# Altium integrated library CDE_Library.IntLib: 6171 symbols (part 10 of 25)
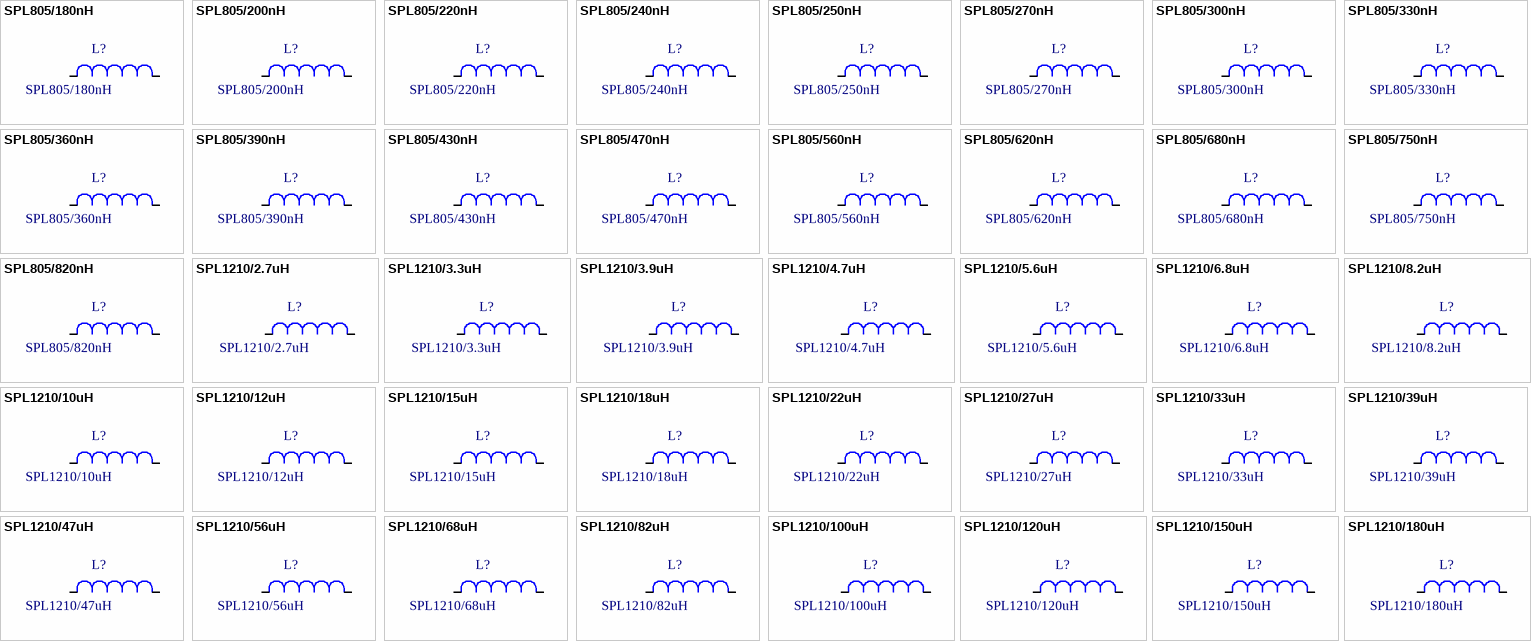
[diagram p266: symbols SPL805/180nH to SPL1210/180uH]

## SPL1210/39uH
designator L?
smd spoel, verpakking 1210, 39uH; Part Number: SPL1210/39uH; Component Kind: Standard; Component Type: Standard; Designator: SPL1210/39uH; Footprint: smd C1210; Library Reference: SPL1210/39uH; Pin Count: 2
footprint smd C1210
pins: 1, 2

## SPL1210/47uH
designator L?
smd spoel, verpakking 1210, 47uH; Part Number: SPL1210/47uH; Component Kind: Standard; Component Type: Standard; Designator: SPL1210/47uH; Footprint: smd C1210; Library Reference: SPL1210/47uH; Pin Count: 2
footprint smd C1210
pins: 1, 2

## SPL1210/56uH
designator L?
smd spoel, verpakking 1210, 56uH; Part Number: SPL1210/56uH; Component Kind: Standard; Component Type: Standard; Designator: SPL1210/56uH; Footprint: smd C1210; Library Reference: SPL1210/56uH; Pin Count: 2
footprint smd C1210
pins: 1, 2

## SPL1210/68uH
designator L?
smd spoel, verpakking 1210, 68uH; Part Number: SPL1210/68uH; Component Kind: Standard; Component Type: Standard; Designator: SPL1210/68uH; Footprint: smd C1210; Library Reference: SPL1210/68uH; Pin Count: 2
footprint smd C1210
pins: 1, 2

## SPL1210/82uH
designator L?
smd spoel, verpakking 1210, 82uH; Part Number: SPL1210/82uH; Component Kind: Standard; Component Type: Standard; Designator: SPL1210/82uH; Footprint: smd C1210; Library Reference: SPL1210/82uH; Pin Count: 2
footprint smd C1210
pins: 1, 2

## SPL1210/100uH
designator L?
smd spoel, verpakking 1210, 100uH; Part Number: SPL1210/100uH; Component Kind: Standard; Component Type: Standard; Designator: SPL1210/100uH; Footprint: smd C1210; Library Reference: SPL1210/100uH; Pin Count: 2
footprint smd C1210
pins: 1, 2

## SPL1210/120uH
designator L?
smd spoel, verpakking 1210, 120uH; Part Number: SPL1210/120uH; Component Kind: Standard; Component Type: Standard; Designator: SPL1210/120uH; Footprint: smd C1210; Library Reference: SPL1210/120uH; Pin Count: 2
footprint smd C1210
pins: 1, 2

## SPL1210/150uH
designator L?
smd spoel, verpakking 1210, 150uH; Part Number: SPL1210/150uH; Component Kind: Standard; Component Type: Standard; Designator: SPL1210/150uH; Footprint: smd C1210; Library Reference: SPL1210/150uH; Pin Count: 2
footprint smd C1210
pins: 1, 2

## SPL1210/180uH
designator L?
smd spoel, verpakking 1210, 180uH; Part Number: SPL1210/180uH; Component Kind: Standard; Component Type: Standard; Designator: SPL1210/180uH; Footprint: smd C1210; Library Reference: SPL1210/180uH; Pin Count: 2
footprint smd C1210
pins: 1, 2

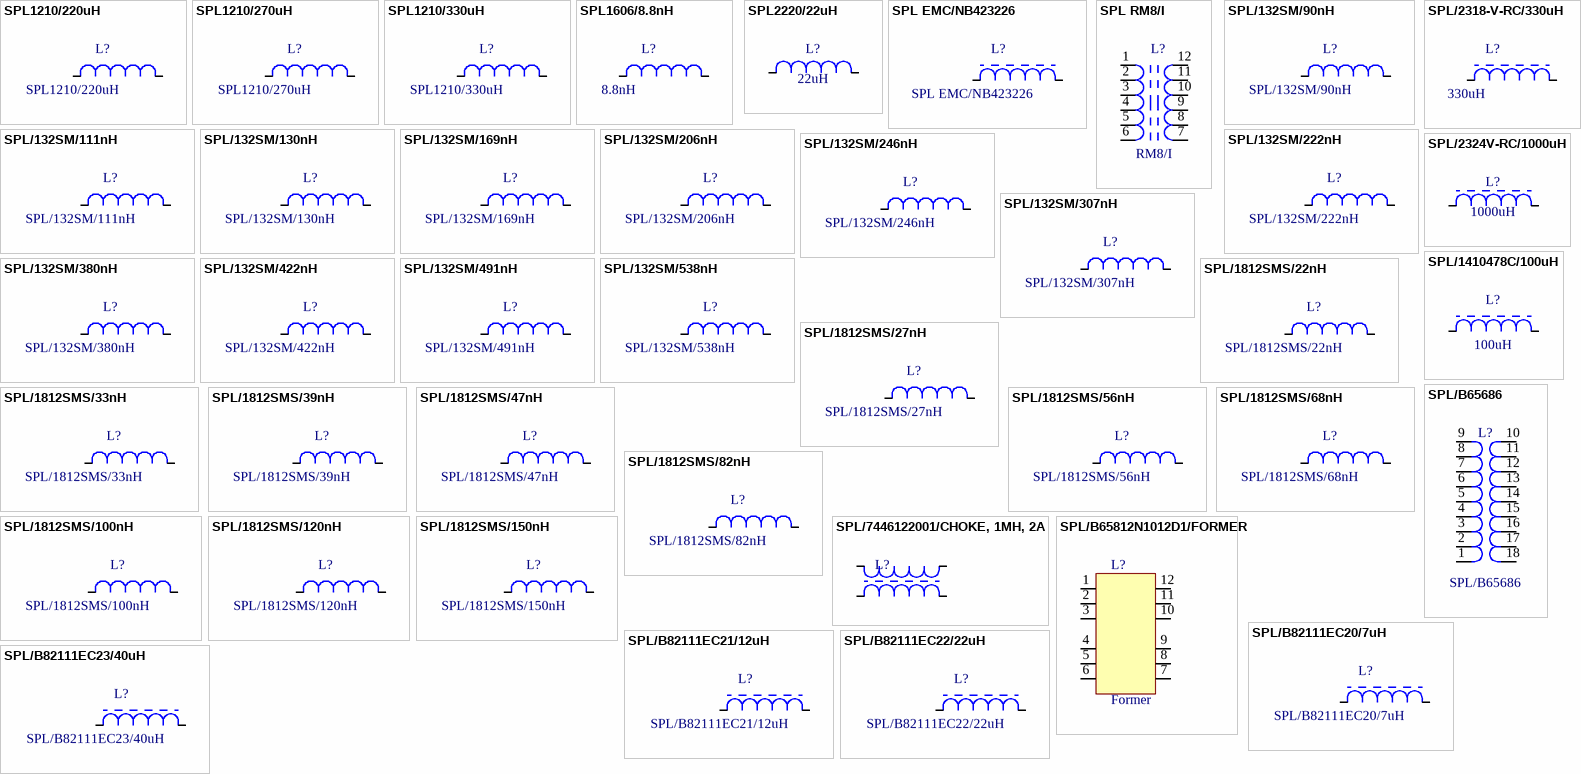
[diagram p117: symbols SPL1210/220uH to SPL/B82111EC23/40uH]

## SPL1210/220uH
designator L?
smd spoel, verpakking 1210, 220uH; Part Number: SPL1210/220uH; Component Kind: Standard; Component Type: Standard; Designator: SPL1210/220uH; Footprint: smd C1210; Library Reference: SPL1210/220uH; Pin Count: 2
footprint smd C1210
pins: 1, 2

## SPL1210/270uH
designator L?
smd spoel, verpakking 1210, 270uH; Part Number: SPL1210/270uH; Component Kind: Standard; Component Type: Standard; Designator: SPL1210/270uH; Footprint: smd C1210; Library Reference: SPL1210/270uH; Pin Count: 2
footprint smd C1210
pins: 1, 2

## SPL1210/330uH
designator L?
smd spoel, verpakking 1210, 330uH; Part Number: SPL1210/330uH; Component Kind: Standard; Component Type: Standard; Designator: SPL1210/330uH; Footprint: smd C1210; Library Reference: SPL1210/330uH; Pin Count: 2
footprint smd C1210
pins: 1, 2

## SPL1606/8.8nH
designator L?, comment 8.8nH
smd spoel, verpakking 1606, 8.8nH; Part Number: SPL805/750nH; Component Kind: Standard; Component Type: Standard; Designator: SPL805/750nH; Footprint: smd C0805; Library Reference: SPL805/750nH; Pin Count: 2
footprint smd l/1606
pins: 1, 2

## SPL2220/22uH
designator L?, comment 22uH
smd spoel, verpakking 2220, 22uH
footprint smd C2220 (Chip Capacitor; Body 5.7 x 5.0 mm (LxW typ))
pins: 1, 2

## SPL EMC/NB423226
designator L?
smd spoel, 323-4897
footprint smd EIA3528
pins: 1, 2

## SPL RM8/I
designator L?, comment RM8/I
Coil form
footprint spl rm8/i
pins: 1, 2, 3, 4, 5, 6, 7, 8, 9, 10, 11, 12

## SPL/132SM/90nH
designator L?
spoel smd Coilcraft MaxiSpring air core, 90nH
footprint spoel MaxiSpring (Coilcraft)
pins: 1, 2

## SPL/132SM/111nH
designator L?
spoel smd Coilcraft MaxiSpring air core, 111nH; Part Number: SPL/132SM/111nH; Component Kind: Standard; Component Type: Standard; Designator: SPL/132SM/111nH; Footprint: spoel MaxiSpring (Coilcraft); Library Reference: SPL/132SM/111nH; Pin Count: 2
footprint spoel MaxiSpring (Coilcraft)
pins: 1, 2

## SPL/132SM/130nH
designator L?
spoel smd Coilcraft MaxiSpring air core, 130nH; Part Number: SPL/132SM/130nH; Component Kind: Standard; Component Type: Standard; Designator: SPL/132SM/130nH; Footprint: spoel MaxiSpring (Coilcraft); Library Reference: SPL/132SM/130nH; Pin Count: 2
footprint spoel MaxiSpring (Coilcraft)
pins: 1, 2

## SPL/132SM/169nH
designator L?
spoel smd Coilcraft MaxiSpring air core, 169nH; Part Number: SPL/132SM/169nH; Component Kind: Standard; Component Type: Standard; Designator: SPL/132SM/169nH; Footprint: spoel MaxiSpring (Coilcraft); Library Reference: SPL/132SM/169nH; Pin Count: 2
footprint spoel MaxiSpring (Coilcraft)
pins: 1, 2

## SPL/132SM/206nH
designator L?
spoel smd Coilcraft MaxiSpring air core, 206nH; Part Number: SPL/132SM/206nH; Component Kind: Standard; Component Type: Standard; Designator: SPL/132SM/206nH; Footprint: spoel MaxiSpring (Coilcraft); Library Reference: SPL/132SM/206nH; Pin Count: 2
footprint spoel MaxiSpring (Coilcraft)
pins: 1, 2

## SPL/132SM/222nH
designator L?
spoel smd Coilcraft MaxiSpring air core, 222nH; Part Number: SPL/132SM/222nH; Component Kind: Standard; Component Type: Standard; Designator: SPL/132SM/222nH; Footprint: spoel MaxiSpring (Coilcraft); Library Reference: SPL/132SM/222nH; Pin Count: 2
footprint spoel MaxiSpring (Coilcraft)
pins: 1, 2

## SPL/132SM/246nH
designator L?
spoel smd Coilcraft MaxiSpring air core, 246nH; Part Number: SPL/132SM/246nH; Component Kind: Standard; Component Type: Standard; Designator: SPL/132SM/246nH; Footprint: spoel MaxiSpring (Coilcraft); Library Reference: SPL/132SM/246nH; Pin Count: 2
footprint spoel MaxiSpring (Coilcraft)
pins: 1, 2

## SPL/132SM/307nH
designator L?
spoel smd Coilcraft MaxiSpring air core, 307nH; Part Number: SPL/132SM/307nH; Component Kind: Standard; Component Type: Standard; Designator: SPL/132SM/307nH; Footprint: spoel MaxiSpring (Coilcraft); Library Reference: SPL/132SM/307nH; Pin Count: 2
footprint spoel MaxiSpring (Coilcraft)
pins: 1, 2

## SPL/132SM/380nH
designator L?
spoel smd Coilcraft MaxiSpring air core, 380nH; Part Number: SPL/132SM/380nH; Component Kind: Standard; Component Type: Standard; Designator: SPL/132SM/380nH; Footprint: spoel MaxiSpring (Coilcraft); Library Reference: SPL/132SM/380nH; Pin Count: 2
footprint spoel MaxiSpring (Coilcraft)
pins: 1, 2

## SPL/132SM/422nH
designator L?
spoel smd Coilcraft MaxiSpring air core, 422nH; Part Number: SPL/132SM/422nH; Component Kind: Standard; Component Type: Standard; Designator: SPL/132SM/422nH; Footprint: spoel MaxiSpring (Coilcraft); Library Reference: SPL/132SM/422nH; Pin Count: 2
footprint spoel MaxiSpring (Coilcraft)
pins: 1, 2

## SPL/132SM/491nH
designator L?
spoel smd Coilcraft MaxiSpring air core, 491nH; Part Number: SPL/132SM/491nH; Component Kind: Standard; Component Type: Standard; Designator: SPL/132SM/491nH; Footprint: spoel MaxiSpring (Coilcraft); Library Reference: SPL/132SM/491nH; Pin Count: 2
footprint spoel MaxiSpring (Coilcraft)
pins: 1, 2

## SPL/132SM/538nH
designator L?
spoel smd Coilcraft MaxiSpring air core, 538nH; Part Number: SPL/132SM/538nH; Component Kind: Standard; Component Type: Standard; Designator: SPL/132SM/538nH; Footprint: spoel MaxiSpring (Coilcraft); Library Reference: SPL/132SM/538nH; Pin Count: 2
footprint spoel MaxiSpring (Coilcraft)
pins: 1, 2

## SPL/1812SMS/22nH
designator L?
spoel smd Coilcraft MidiSpring air core, 22nH
footprint spoel MidiSpring (Coilcraft)
pins: 1, 2

## SPL/1812SMS/27nH
designator L?
spoel smd Coilcraft MidiSpring air core, 27nH; Part Number: SPL/1812SMS/27nH; Component Kind: Standard; Component Type: Standard; Designator: SPL/1812SMS/27nH; Footprint: spoel MidiSpring (Coilcraft); Library Reference: SPL/1812SMS/27nH; Pin Count: 2
footprint spoel MidiSpring (Coilcraft)
pins: 1, 2

## SPL/1812SMS/33nH
designator L?
spoel smd Coilcraft MidiSpring air core, 33nH; Part Number: SPL/1812SMS/33nH; Component Kind: Standard; Component Type: Standard; Designator: SPL/1812SMS/33nH; Footprint: spoel MidiSpring (Coilcraft); Library Reference: SPL/1812SMS/33nH; Pin Count: 2
footprint spoel MidiSpring (Coilcraft)
pins: 1, 2

## SPL/1812SMS/39nH
designator L?
spoel smd Coilcraft MidiSpring air core, 39nH; Part Number: SPL/1812SMS/39nH; Component Kind: Standard; Component Type: Standard; Designator: SPL/1812SMS/39nH; Footprint: spoel MidiSpring (Coilcraft); Library Reference: SPL/1812SMS/39nH; Pin Count: 2
footprint spoel MidiSpring (Coilcraft)
pins: 1, 2

## SPL/1812SMS/47nH
designator L?
spoel smd Coilcraft MidiSpring air core, 47nH; Part Number: SPL/1812SMS/47nH; Component Kind: Standard; Component Type: Standard; Designator: SPL/1812SMS/47nH; Footprint: spoel MidiSpring (Coilcraft); Library Reference: SPL/1812SMS/47nH; Pin Count: 2
footprint spoel MidiSpring (Coilcraft)
pins: 1, 2

## SPL/1812SMS/56nH
designator L?
spoel smd Coilcraft MidiSpring air core, 56nH; Part Number: SPL/1812SMS/56nH; Component Kind: Standard; Component Type: Standard; Designator: SPL/1812SMS/56nH; Footprint: spoel MidiSpring (Coilcraft); Library Reference: SPL/1812SMS/56nH; Pin Count: 2
footprint spoel MidiSpring (Coilcraft)
pins: 1, 2

## SPL/1812SMS/68nH
designator L?
spoel smd Coilcraft MidiSpring air core, 68nH; Part Number: SPL/1812SMS/68nH; Component Kind: Standard; Component Type: Standard; Designator: SPL/1812SMS/68nH; Footprint: spoel MidiSpring (Coilcraft); Library Reference: SPL/1812SMS/68nH; Pin Count: 2
footprint spoel MidiSpring (Coilcraft)
pins: 1, 2

## SPL/1812SMS/82nH
designator L?
spoel smd Coilcraft MidiSpring air core, 82nH; Part Number: SPL/1812SMS/82nH; Component Kind: Standard; Component Type: Standard; Designator: SPL/1812SMS/82nH; Footprint: spoel MidiSpring (Coilcraft); Library Reference: SPL/1812SMS/82nH; Pin Count: 2
footprint spoel MidiSpring (Coilcraft)
pins: 1, 2

## SPL/1812SMS/100nH
designator L?
spoel smd Coilcraft MidiSpring air core, 100nH; Part Number: SPL/1812SMS/100nH; Component Kind: Standard; Component Type: Standard; Designator: SPL/1812SMS/100nH; Footprint: spoel MidiSpring (Coilcraft); Library Reference: SPL/1812SMS/100nH; Pin Count: 2
footprint spoel MidiSpring (Coilcraft)
pins: 1, 2

## SPL/1812SMS/120nH
designator L?
spoel smd Coilcraft MidiSpring air core, 120nH; Part Number: SPL/1812SMS/120nH; Component Kind: Standard; Component Type: Standard; Designator: SPL/1812SMS/120nH; Footprint: spoel MidiSpring (Coilcraft); Library Reference: SPL/1812SMS/120nH; Pin Count: 2
footprint spoel MidiSpring (Coilcraft)
pins: 1, 2

## SPL/1812SMS/150nH
designator L?
spoel smd Coilcraft MidiSpring air core, 150nH; Part Number: SPL/1812SMS/150nH; Component Kind: Standard; Component Type: Standard; Designator: SPL/1812SMS/150nH; Footprint: spoel MidiSpring (Coilcraft); Library Reference: SPL/1812SMS/150nH; Pin Count: 2
footprint spoel MidiSpring (Coilcraft)
pins: 1, 2

## SPL/2318-V-RC/330uH
designator L?, comment 330uH
spoel Bourns 2318-V-RC
footprint SPL 2318-V-RC (Bourns)
pins: 1, 2

## SPL/2324V-RC/1000uH
designator L?, comment 1000uH
spoel Bourns 2324-V-RC
footprint SPL 2324-V-RC (Bourns)
pins: 1, 2

## SPL/1410478C/100uH
designator L?, comment 100uH
spoel Murata 1410478C, 100uH
footprint spoel 1410478C
pins: 1, 2

## SPL/7446122001/CHOKE, 1MH, 2A
designator L?  (value not drawn)
spoel WUERTH - 7446122001 - CHOKE, 1MH, 2A
footprint spoel choke (Wuerth Choke 1mH, 2A) (WUERTH ELEKTRONIK - 7446122001 - CHOKE, COMMON MODE, 1MH, 2A)
pins: 1, 2, 3, 4

## SPL/B65686
designator L?
spoel EPCOS - B65686
footprint SPL EPCOS/B65686 (EPCOS - B65686 - COIL FORMER)
pins: 1, 2, 3, 4, 5, 6, 7, 8, 9, 10, 11, 12, 13, 14, 15, 16, 17, 18

## SPL/B65812N1012D1/FORMER
designator L?, comment Former
EPCOS - B65812N1012D1 - FORMER, RM8, 12PIN
footprint Spoel Former B65812N1012D1 (EPCOS - B65812N1012D1 - FORMER, RM8, 12PIN)
pins: 1, 2, 3, 4, 5, 6, 7, 8, 9, 10, 11, 12

## SPL/B82111EC20/7uH
designator L?
spoel axiaal Epcos SPL/B82111EC serie, 7uH; Part Number: SPL/B82111EC20/7uH; Component Kind: Standard; Component Type: Standard; Designator: SPL/B82111EC20/7uH; Footprint: spoel (.95/.3/1.2/100/43); Library Reference: SPL/B82111EC20/7uH; Pin Count: 2
footprint spoel (.95/.3/1.2/100/43)
pins: 1, 2

## SPL/B82111EC21/12uH
designator L?
spoel axiaal Epcos SPL/B82111EC serie, 12uH; Part Number: SPL/B82111EC21/12uH; Component Kind: Standard; Component Type: Standard; Designator: SPL/B82111EC21/12uH; Footprint: spoel (.95/.3/1.2/100/43); Library Reference: SPL/B82111EC21/12uH; Pin Count: 2
footprint spoel (.95/.3/1.2/100/43)
pins: 1, 2

## SPL/B82111EC22/22uH
designator L?
spoel axiaal Epcos SPL/B82111EC serie, 22uH; Part Number: SPL/B82111EC22/22uH; Component Kind: Standard; Component Type: Standard; Designator: SPL/B82111EC22/22uH; Footprint: spoel (.95/.3/1.2/100/43); Library Reference: SPL/B82111EC22/22uH; Pin Count: 2
footprint spoel (.95/.3/1.2/100/43)
pins: 1, 2

## SPL/B82111EC23/40uH
designator L?
spoel axiaal Epcos SPL/B82111EC serie, 40uH; Part Number: SPL/B82111EC23/40uH; Component Kind: Standard; Component Type: Standard; Designator: SPL/B82111EC23/40uH; Footprint: spoel (.95/.3/1.2/100/43); Library Reference: SPL/B82111EC23/40uH; Pin Count: 2
footprint spoel (.95/.3/1.2/100/43)
pins: 1, 2

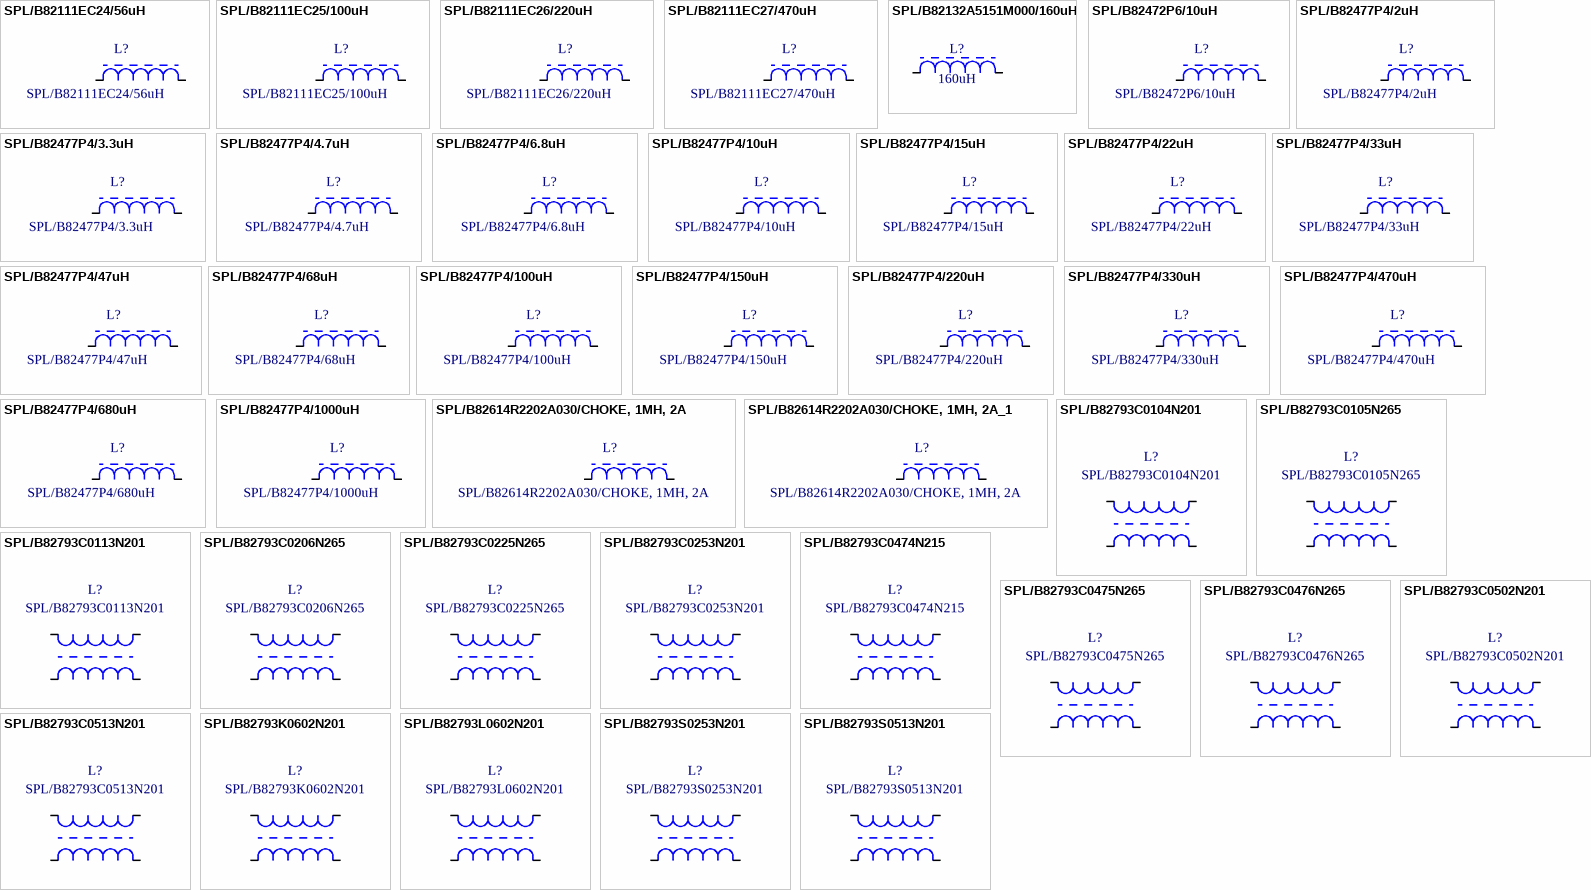
[diagram p118: symbols SPL/B82111EC24/56uH to SPL/B82793S0513N201]

## SPL/B82111EC24/56uH
designator L?
spoel axiaal Epcos SPL/B82111EC serie, 56uH; Part Number: SPL/B82111EC24/56uH; Component Kind: Standard; Component Type: Standard; Designator: SPL/B82111EC24/56uH; Footprint: spoel (.95/.3/1.2/100/43); Library Reference: SPL/B82111EC24/56uH; Pin Count: 2
footprint spoel (.95/.3/1.2/100/43)
pins: 1, 2

## SPL/B82111EC25/100uH
designator L?
spoel axiaal Epcos SPL/B82111EC serie, 100uH; Part Number: SPL/B82111EC25/100uH; Component Kind: Standard; Component Type: Standard; Designator: SPL/B82111EC25/100uH; Footprint: spoel (.95/.3/1.2/100/43); Library Reference: SPL/B82111EC25/100uH; Pin Count: 2
footprint spoel (.95/.3/1.2/100/43)
pins: 1, 2

## SPL/B82111EC26/220uH
designator L?
spoel axiaal Epcos SPL/B82111EC serie, 220uH; Part Number: SPL/B82111EC26/220uH; Component Kind: Standard; Component Type: Standard; Designator: SPL/B82111EC26/220uH; Footprint: spoel (.95/.3/1.2/100/43); Library Reference: SPL/B82111EC26/220uH; Pin Count: 2
footprint spoel (.95/.3/1.2/100/43)
pins: 1, 2

## SPL/B82111EC27/470uH
designator L?
spoel axiaal Epcos SPL/B82111EC serie, 470uH
footprint spoel (.95/.3/1.2/100/43)
pins: 1, 2

## SPL/B82132A5151M000/160uH
designator L?, comment 160uH
spoel axiaal Epcos B82132A5151M000, 160uH; Part Number: SPL/B82111EC20/7uH; Component Kind: Standard; Component Type: Standard; Designator: SPL/B82111EC20/7uH; Footprint: spoel (.95/.3/1.2/100/43); Library Reference: SPL/B82111EC20/7uH; Pin Count: 2
footprint spoel (.95/.3/1.2/100/43)
pins: 1, 2

## SPL/B82472P6/10uH
designator L?
spoel smd Epcos B82472P6, 10uH
footprint spoel B82472P6 (Epcos)
pins: 1, 2

## SPL/B82477P4/2uH
designator L?
spoel smd Epcos B82477P4, 2uH
footprint spoel B82477P4 (Epcos)
pins: 1, 2

## SPL/B82477P4/3.3uH
designator L?
spoel smd Epcos B82477P4, 3.3uH; Part Number: SPL/B82477P4/3.3uH; Component Kind: Standard; Component Type: Standard; Designator: SPL/B82477P4/3.3uH; Footprint: spoel B82477P4 (Epcos); Library Reference: SPL/B82477P4/3.3uH; Pin Count: 2
footprint spoel B82477P4 (Epcos)
pins: 1, 2

## SPL/B82477P4/4.7uH
designator L?
spoel smd Epcos B82477P4, 4.7uH; Part Number: SPL/B82477P4/4.7uH; Component Kind: Standard; Component Type: Standard; Designator: SPL/B82477P4/4.7uH; Footprint: spoel B82477P4 (Epcos); Library Reference: SPL/B82477P4/4.7uH; Pin Count: 2
footprint spoel B82477P4 (Epcos)
pins: 1, 2

## SPL/B82477P4/6.8uH
designator L?
spoel smd Epcos B82477P4, 6.8uH; Part Number: SPL/B82477P4/6.8uH; Component Kind: Standard; Component Type: Standard; Designator: SPL/B82477P4/6.8uH; Footprint: spoel B82477P4 (Epcos); Library Reference: SPL/B82477P4/6.8uH; Pin Count: 2
footprint spoel B82477P4 (Epcos)
pins: 1, 2

## SPL/B82477P4/10uH
designator L?
spoel smd Epcos B82477P4, 10uH; Part Number: SPL/B82477P4/10uH; Component Kind: Standard; Component Type: Standard; Designator: SPL/B82477P4/10uH; Footprint: spoel B82477P4 (Epcos); Library Reference: SPL/B82477P4/10uH; Pin Count: 2
footprint spoel B82477P4 (Epcos)
pins: 1, 2

## SPL/B82477P4/15uH
designator L?
spoel smd Epcos B82477P4, 15uH; Part Number: SPL/B82477P4/15uH; Component Kind: Standard; Component Type: Standard; Designator: SPL/B82477P4/15uH; Footprint: spoel B82477P4 (Epcos); Library Reference: SPL/B82477P4/15uH; Pin Count: 2
footprint spoel B82477P4 (Epcos)
pins: 1, 2

## SPL/B82477P4/22uH
designator L?
spoel smd Epcos B82477P4, 22uH; Part Number: SPL/B82477P4/22uH; Component Kind: Standard; Component Type: Standard; Designator: SPL/B82477P4/22uH; Footprint: spoel B82477P4 (Epcos); Library Reference: SPL/B82477P4/22uH; Pin Count: 2
footprint spoel B82477P4 (Epcos)
pins: 1, 2

## SPL/B82477P4/33uH
designator L?
spoel smd Epcos B82477P4, 33uH; Part Number: SPL/B82477P4/33uH; Component Kind: Standard; Component Type: Standard; Designator: SPL/B82477P4/33uH; Footprint: spoel B82477P4 (Epcos); Library Reference: SPL/B82477P4/33uH; Pin Count: 2
footprint spoel B82477P4 (Epcos)
pins: 1, 2

## SPL/B82477P4/47uH
designator L?
spoel smd Epcos B82477P4, 47uH; Part Number: SPL/B82477P4/47uH; Component Kind: Standard; Component Type: Standard; Designator: SPL/B82477P4/47uH; Footprint: spoel B82477P4 (Epcos); Library Reference: SPL/B82477P4/47uH; Pin Count: 2
footprint spoel B82477P4 (Epcos)
pins: 1, 2

## SPL/B82477P4/68uH
designator L?
spoel smd Epcos B82477P4, 68uH; Part Number: SPL/B82477P4/68uH; Component Kind: Standard; Component Type: Standard; Designator: SPL/B82477P4/68uH; Footprint: spoel B82477P4 (Epcos); Library Reference: SPL/B82477P4/68uH; Pin Count: 2
footprint spoel B82477P4 (Epcos)
pins: 1, 2

## SPL/B82477P4/100uH
designator L?
spoel smd Epcos B82477P4, 100uH; Part Number: SPL/B82477P4/100uH; Component Kind: Standard; Component Type: Standard; Designator: SPL/B82477P4/100uH; Footprint: spoel B82477P4 (Epcos); Library Reference: SPL/B82477P4/100uH; Pin Count: 2
footprint spoel B82477P4 (Epcos)
pins: 1, 2

## SPL/B82477P4/150uH
designator L?
spoel smd Epcos B82477P4, 150uH; Part Number: SPL/B82477P4/150uH; Component Kind: Standard; Component Type: Standard; Designator: SPL/B82477P4/150uH; Footprint: spoel B82477P4 (Epcos); Library Reference: SPL/B82477P4/150uH; Pin Count: 2
footprint spoel B82477P4 (Epcos)
pins: 1, 2

## SPL/B82477P4/220uH
designator L?
spoel smd Epcos B82477P4, 220uH; Part Number: SPL/B82477P4/220uH; Component Kind: Standard; Component Type: Standard; Designator: SPL/B82477P4/220uH; Footprint: spoel B82477P4 (Epcos); Library Reference: SPL/B82477P4/220uH; Pin Count: 2
footprint spoel B82477P4 (Epcos)
pins: 1, 2

## SPL/B82477P4/330uH
designator L?
spoel smd Epcos B82477P4, 330uH; Part Number: SPL/B82477P4/330uH; Component Kind: Standard; Component Type: Standard; Designator: SPL/B82477P4/330uH; Footprint: spoel B82477P4 (Epcos); Library Reference: SPL/B82477P4/330uH; Pin Count: 2
footprint spoel B82477P4 (Epcos)
pins: 1, 2

## SPL/B82477P4/470uH
designator L?
spoel smd Epcos B82477P4, 470uH; Part Number: SPL/B82477P4/470uH; Component Kind: Standard; Component Type: Standard; Designator: SPL/B82477P4/470uH; Footprint: spoel B82477P4 (Epcos); Library Reference: SPL/B82477P4/470uH; Pin Count: 2
footprint spoel B82477P4 (Epcos)
pins: 1, 2

## SPL/B82477P4/680uH
designator L?
spoel smd Epcos B82477P4, 680uH; Part Number: SPL/B82477P4/680uH; Component Kind: Standard; Component Type: Standard; Designator: SPL/B82477P4/680uH; Footprint: spoel B82477P4 (Epcos); Library Reference: SPL/B82477P4/680uH; Pin Count: 2
footprint spoel B82477P4 (Epcos)
pins: 1, 2

## SPL/B82477P4/1000uH
designator L?
spoel smd Epcos B82477P4, 1000uH; Part Number: SPL/B82477P4/1000uH; Component Kind: Standard; Component Type: Standard; Designator: SPL/B82477P4/1000uH; Footprint: spoel B82477P4 (Epcos); Library Reference: SPL/B82477P4/1000uH; Pin Count: 2
footprint spoel B82477P4 (Epcos)
pins: 1, 2

## SPL/B82614R2202A030/CHOKE, 1MH, 2A
designator L?
spoel EPCOS - B82614R2202A030 - CHOKE, 1MH, 2A
footprint SPL EPCOS/B82614R2202A030 (EPCOS - B82614R2202A030 - CHOKE, 1MH, 2A)
pins: 1, 3

## SPL/B82614R2202A030/CHOKE, 1MH, 2A_1
designator L?, comment SPL/B82614R2202A030/CHOKE, 1MH, 2A
spoel EPCOS - B82614R2202A030 - CHOKE, 1MH, 2A
footprint SPL EPCOS/B82614R2202A030 (EPCOS - B82614R2202A030 - CHOKE, 1MH, 2A)
pins: 1, 3

## SPL/B82793C0104N201
designator L?
data- en signaalchoke, common-mode, Epcos; Part Number: SPL/B82793C0104N201; Component Kind: Standard; Component Type: Standard; Designator: SPL/B82793C0104N201; Footprint: spoel dubbel (Epcos B82793C0/S0); Library Reference: SPL/B82793C0104N201; Pin Count: 4
footprint spoel dubbel (Epcos B82793C0/S0)
pins: 1, 2, 3, 4

## SPL/B82793C0105N265
designator L?
data- en signaalchoke, common-mode, Epcos; Part Number: SPL/B82793C0105N265; Component Kind: Standard; Component Type: Standard; Designator: SPL/B82793C0105N265; Footprint: spoel dubbel (Epcos B82793C0/S0); Library Reference: SPL/B82793C0105N265; Pin Count: 4
footprint spoel dubbel (Epcos B82793C0/S0)
pins: 1, 2, 3, 4

## SPL/B82793C0113N201
designator L?
data- en signaalchoke, common-mode, Epcos; Part Number: SPL/B82793C0113N201; Component Kind: Standard; Component Type: Standard; Designator: SPL/B82793C0113N201; Footprint: spoel dubbel (Epcos B82793C0/S0); Library Reference: SPL/B82793C0113N201; Pin Count: 4
footprint spoel dubbel (Epcos B82793C0/S0)
pins: 1, 2, 3, 4

## SPL/B82793C0206N265
designator L?
data- en signaalchoke, common-mode, Epcos; Part Number: SPL/B82793C0206N265; Component Kind: Standard; Component Type: Standard; Designator: SPL/B82793C0206N265; Footprint: spoel dubbel (Epcos B82793C0/S0); Library Reference: SPL/B82793C0206N265; Pin Count: 4
footprint spoel dubbel (Epcos B82793C0/S0)
pins: 1, 2, 3, 4

## SPL/B82793C0225N265
designator L?
data- en signaalchoke, common-mode, Epcos; Part Number: SPL/B82793C0225N265; Component Kind: Standard; Component Type: Standard; Designator: SPL/B82793C0225N265; Footprint: spoel dubbel (Epcos B82793C0/S0); Library Reference: SPL/B82793C0225N265; Pin Count: 4
footprint spoel dubbel (Epcos B82793C0/S0)
pins: 1, 2, 3, 4

## SPL/B82793C0253N201
designator L?
data- en signaalchoke, common-mode, Epcos; Part Number: SPL/B82793C0253N201; Component Kind: Standard; Component Type: Standard; Designator: SPL/B82793C0253N201; Footprint: spoel dubbel (Epcos B82793C0/S0); Library Reference: SPL/B82793C0253N201; Pin Count: 4
footprint spoel dubbel (Epcos B82793C0/S0)
pins: 1, 2, 3, 4

## SPL/B82793C0474N215
designator L?
data- en signaalchoke, common-mode, Epcos; Part Number: SPL/B82793C0474N215; Component Kind: Standard; Component Type: Standard; Designator: SPL/B82793C0474N215; Footprint: spoel dubbel (Epcos B82793C0/S0); Library Reference: SPL/B82793C0474N215; Pin Count: 4
footprint spoel dubbel (Epcos B82793C0/S0)
pins: 1, 2, 3, 4

## SPL/B82793C0475N265
designator L?
data- en signaalchoke, common-mode, Epcos; Part Number: SPL/B82793C0475N265; Component Kind: Standard; Component Type: Standard; Designator: SPL/B82793C0475N265; Footprint: spoel dubbel (Epcos B82793C0/S0); Library Reference: SPL/B82793C0475N265; Pin Count: 4
footprint spoel dubbel (Epcos B82793C0/S0)
pins: 1, 2, 3, 4

## SPL/B82793C0476N265
designator L?
data- en signaalchoke, common-mode, Epcos; Part Number: SPL/B82793C0476N265; Component Kind: Standard; Component Type: Standard; Designator: SPL/B82793C0476N265; Footprint: spoel dubbel (Epcos B82793C0/S0); Library Reference: SPL/B82793C0476N265; Pin Count: 4
footprint spoel dubbel (Epcos B82793C0/S0)
pins: 1, 2, 3, 4

## SPL/B82793C0502N201
designator L?
data- en signaalchoke, common-mode, Epcos
footprint spoel dubbel (Epcos B82793C0/S0)
pins: 1, 2, 3, 4

## SPL/B82793C0513N201
designator L?
data- en signaalchoke, common-mode, Epcos; Part Number: SPL/B82793C0513N201; Component Kind: Standard; Component Type: Standard; Designator: SPL/B82793C0513N201; Footprint: spoel dubbel (Epcos B82793C0/S0); Library Reference: SPL/B82793C0513N201; Pin Count: 4
footprint spoel dubbel (Epcos B82793C0/S0)
pins: 1, 2, 3, 4

## SPL/B82793K0602N201
designator L?
data- en signaalchoke, common-mode, Epcos; Part Number: SPL/B82793K0602N201; Component Kind: Standard; Component Type: Standard; Designator: SPL/B82793K0602N201; Footprint: spoel dubbel (Epcos B82793C0/S0); Library Reference: SPL/B82793K0602N201; Pin Count: 4
footprint spoel dubbel (Epcos B82793C0/S0)
pins: 1, 2, 3, 4

## SPL/B82793L0602N201
designator L?
data- en signaalchoke, common-mode, Epcos; Part Number: SPL/B82793L0602N201; Component Kind: Standard; Component Type: Standard; Designator: SPL/B82793L0602N201; Footprint: spoel dubbel (Epcos B82793C0/S0); Library Reference: SPL/B82793L0602N201; Pin Count: 4
footprint spoel dubbel (Epcos B82793C0/S0)
pins: 1, 2, 3, 4

## SPL/B82793S0253N201
designator L?
data- en signaalchoke, common-mode, Epcos; Part Number: SPL/B82793S0253N201; Component Kind: Standard; Component Type: Standard; Designator: SPL/B82793S0253N201; Footprint: spoel dubbel (Epcos B82793C0/S0); Library Reference: SPL/B82793S0253N201; Pin Count: 4
footprint spoel dubbel (Epcos B82793C0/S0)
pins: 1, 2, 3, 4

## SPL/B82793S0513N201
designator L?
data- en signaalchoke, common-mode, Epcos; Part Number: SPL/B82793S0513N201; Component Kind: Standard; Component Type: Standard; Designator: SPL/B82793S0513N201; Footprint: spoel dubbel (Epcos B82793C0/S0); Library Reference: SPL/B82793S0513N201; Pin Count: 4
footprint spoel dubbel (Epcos B82793C0/S0)
pins: 1, 2, 3, 4

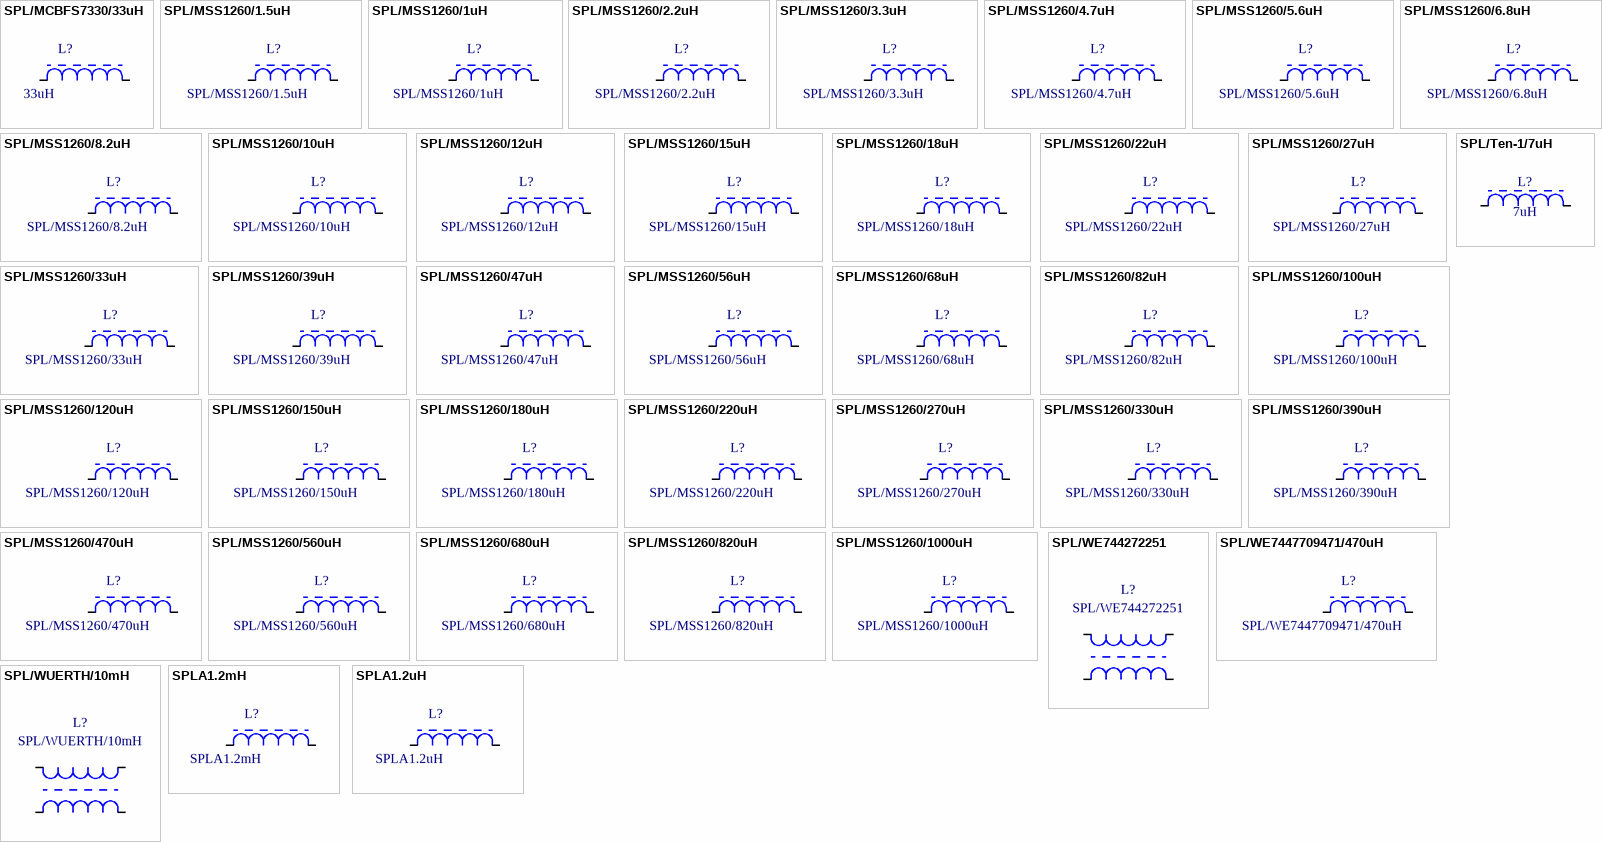
[diagram p119: symbols SPL/MCBFS7330/33uH to SPLA1.2uH]

## SPL/MCBFS7330/33uH
designator L?, comment 33uH
spoel smd Multicomp MCBFS7330
footprint spoel MCBFS7330/33uH (Multicomp MCBFS7330)
pins: 1, 2

## SPL/MSS1260/1.5uH
designator L?
spoel smd Coilcraft MSS1260 serie; Part Number: SPL/MSS1260/1.5uH; Component Kind: Standard; Component Type: Standard; Designator: SPL/MSS1260/1.5uH; Footprint: spoel (Coilcraft MSS1260); Library Reference: SPL/MSS1260/1.5uH; Pin Count: 2
footprint spoel (Coilcraft MSS1260)
pins: 1, 2

## SPL/MSS1260/1uH
designator L?
spoel smd Coilcraft MSS1260 serie
footprint spoel (Coilcraft MSS1260)
pins: 1, 2

## SPL/MSS1260/2.2uH
designator L?
spoel smd Coilcraft MSS1260 serie; Part Number: SPL/MSS1260/2.2uH; Component Kind: Standard; Component Type: Standard; Designator: SPL/MSS1260/2.2uH; Footprint: spoel (Coilcraft MSS1260); Library Reference: SPL/MSS1260/2.2uH; Pin Count: 2
footprint spoel (Coilcraft MSS1260)
pins: 1, 2

## SPL/MSS1260/3.3uH
designator L?
spoel smd Coilcraft MSS1260 serie; Part Number: SPL/MSS1260/3.3uH; Component Kind: Standard; Component Type: Standard; Designator: SPL/MSS1260/3.3uH; Footprint: spoel (Coilcraft MSS1260); Library Reference: SPL/MSS1260/3.3uH; Pin Count: 2
footprint spoel (Coilcraft MSS1260)
pins: 1, 2

## SPL/MSS1260/4.7uH
designator L?
spoel smd Coilcraft MSS1260 serie; Part Number: SPL/MSS1260/4.7uH; Component Kind: Standard; Component Type: Standard; Designator: SPL/MSS1260/4.7uH; Footprint: spoel (Coilcraft MSS1260); Library Reference: SPL/MSS1260/4.7uH; Pin Count: 2
footprint spoel (Coilcraft MSS1260)
pins: 1, 2

## SPL/MSS1260/5.6uH
designator L?
spoel smd Coilcraft MSS1260 serie; Part Number: SPL/MSS1260/5.6uH; Component Kind: Standard; Component Type: Standard; Designator: SPL/MSS1260/5.6uH; Footprint: spoel (Coilcraft MSS1260); Library Reference: SPL/MSS1260/5.6uH; Pin Count: 2
footprint spoel (Coilcraft MSS1260)
pins: 1, 2

## SPL/MSS1260/6.8uH
designator L?
spoel smd Coilcraft MSS1260 serie; Part Number: SPL/MSS1260/6.8uH; Component Kind: Standard; Component Type: Standard; Designator: SPL/MSS1260/6.8uH; Footprint: spoel (Coilcraft MSS1260); Library Reference: SPL/MSS1260/6.8uH; Pin Count: 2
footprint spoel (Coilcraft MSS1260)
pins: 1, 2

## SPL/MSS1260/8.2uH
designator L?
spoel smd Coilcraft MSS1260 serie; Part Number: SPL/MSS1260/8.2uH; Component Kind: Standard; Component Type: Standard; Designator: SPL/MSS1260/8.2uH; Footprint: spoel (Coilcraft MSS1260); Library Reference: SPL/MSS1260/8.2uH; Pin Count: 2
footprint spoel (Coilcraft MSS1260)
pins: 1, 2

## SPL/MSS1260/10uH
designator L?
spoel smd Coilcraft MSS1260 serie; Part Number: SPL/MSS1260/10uH; Component Kind: Standard; Component Type: Standard; Designator: SPL/MSS1260/10uH; Footprint: spoel (Coilcraft MSS1260); Library Reference: SPL/MSS1260/10uH; Pin Count: 2
footprint spoel (Coilcraft MSS1260)
pins: 1, 2

## SPL/MSS1260/12uH
designator L?
spoel smd Coilcraft MSS1260 serie; Part Number: SPL/MSS1260/12uH; Component Kind: Standard; Component Type: Standard; Designator: SPL/MSS1260/12uH; Footprint: spoel (Coilcraft MSS1260); Library Reference: SPL/MSS1260/12uH; Pin Count: 2
footprint spoel (Coilcraft MSS1260)
pins: 1, 2

## SPL/MSS1260/15uH
designator L?
spoel smd Coilcraft MSS1260 serie; Part Number: SPL/MSS1260/15uH; Component Kind: Standard; Component Type: Standard; Designator: SPL/MSS1260/15uH; Footprint: spoel (Coilcraft MSS1260); Library Reference: SPL/MSS1260/15uH; Pin Count: 2
footprint spoel (Coilcraft MSS1260)
pins: 1, 2

## SPL/MSS1260/18uH
designator L?
spoel smd Coilcraft MSS1260 serie; Part Number: SPL/MSS1260/18uH; Component Kind: Standard; Component Type: Standard; Designator: SPL/MSS1260/18uH; Footprint: spoel (Coilcraft MSS1260); Library Reference: SPL/MSS1260/18uH; Pin Count: 2
footprint spoel (Coilcraft MSS1260)
pins: 1, 2

## SPL/MSS1260/22uH
designator L?
spoel smd Coilcraft MSS1260 serie; Part Number: SPL/MSS1260/22uH; Component Kind: Standard; Component Type: Standard; Designator: SPL/MSS1260/22uH; Footprint: spoel (Coilcraft MSS1260); Library Reference: SPL/MSS1260/22uH; Pin Count: 2
footprint spoel (Coilcraft MSS1260)
pins: 1, 2

## SPL/MSS1260/27uH
designator L?
spoel smd Coilcraft MSS1260 serie; Part Number: SPL/MSS1260/27uH; Component Kind: Standard; Component Type: Standard; Designator: SPL/MSS1260/27uH; Footprint: spoel (Coilcraft MSS1260); Library Reference: SPL/MSS1260/27uH; Pin Count: 2
footprint spoel (Coilcraft MSS1260)
pins: 1, 2

## SPL/MSS1260/33uH
designator L?
spoel smd Coilcraft MSS1260 serie; Part Number: SPL/MSS1260/33uH; Component Kind: Standard; Component Type: Standard; Designator: SPL/MSS1260/33uH; Footprint: spoel (Coilcraft MSS1260); Library Reference: SPL/MSS1260/33uH; Pin Count: 2
footprint spoel (Coilcraft MSS1260)
pins: 1, 2

## SPL/MSS1260/39uH
designator L?
spoel smd Coilcraft MSS1260 serie; Part Number: SPL/MSS1260/39uH; Component Kind: Standard; Component Type: Standard; Designator: SPL/MSS1260/39uH; Footprint: spoel (Coilcraft MSS1260); Library Reference: SPL/MSS1260/39uH; Pin Count: 2
footprint spoel (Coilcraft MSS1260)
pins: 1, 2

## SPL/MSS1260/47uH
designator L?
spoel smd Coilcraft MSS1260 serie; Part Number: SPL/MSS1260/47uH; Component Kind: Standard; Component Type: Standard; Designator: SPL/MSS1260/47uH; Footprint: spoel (Coilcraft MSS1260); Library Reference: SPL/MSS1260/47uH; Pin Count: 2
footprint spoel (Coilcraft MSS1260)
pins: 1, 2

## SPL/MSS1260/56uH
designator L?
spoel smd Coilcraft MSS1260 serie; Part Number: SPL/MSS1260/56uH; Component Kind: Standard; Component Type: Standard; Designator: SPL/MSS1260/56uH; Footprint: spoel (Coilcraft MSS1260); Library Reference: SPL/MSS1260/56uH; Pin Count: 2
footprint spoel (Coilcraft MSS1260)
pins: 1, 2

## SPL/MSS1260/68uH
designator L?
spoel smd Coilcraft MSS1260 serie; Part Number: SPL/MSS1260/68uH; Component Kind: Standard; Component Type: Standard; Designator: SPL/MSS1260/68uH; Footprint: spoel (Coilcraft MSS1260); Library Reference: SPL/MSS1260/68uH; Pin Count: 2
footprint spoel (Coilcraft MSS1260)
pins: 1, 2

## SPL/MSS1260/82uH
designator L?
spoel smd Coilcraft MSS1260 serie; Part Number: SPL/MSS1260/82uH; Component Kind: Standard; Component Type: Standard; Designator: SPL/MSS1260/82uH; Footprint: spoel (Coilcraft MSS1260); Library Reference: SPL/MSS1260/82uH; Pin Count: 2
footprint spoel (Coilcraft MSS1260)
pins: 1, 2

## SPL/MSS1260/100uH
designator L?
spoel smd Coilcraft MSS1260 serie; Part Number: SPL/MSS1260/100uH; Component Kind: Standard; Component Type: Standard; Designator: SPL/MSS1260/100uH; Footprint: spoel (Coilcraft MSS1260); Library Reference: SPL/MSS1260/100uH; Pin Count: 2
footprint spoel (Coilcraft MSS1260)
pins: 1, 2

## SPL/MSS1260/120uH
designator L?
spoel smd Coilcraft MSS1260 serie; Part Number: SPL/MSS1260/120uH; Component Kind: Standard; Component Type: Standard; Designator: SPL/MSS1260/120uH; Footprint: spoel (Coilcraft MSS1260); Library Reference: SPL/MSS1260/120uH; Pin Count: 2
footprint spoel (Coilcraft MSS1260)
pins: 1, 2

## SPL/MSS1260/150uH
designator L?
spoel smd Coilcraft MSS1260 serie; Part Number: SPL/MSS1260/150uH; Component Kind: Standard; Component Type: Standard; Designator: SPL/MSS1260/150uH; Footprint: spoel (Coilcraft MSS1260); Library Reference: SPL/MSS1260/150uH; Pin Count: 2
footprint spoel (Coilcraft MSS1260)
pins: 1, 2

## SPL/MSS1260/180uH
designator L?
spoel smd Coilcraft MSS1260 serie; Part Number: SPL/MSS1260/180uH; Component Kind: Standard; Component Type: Standard; Designator: SPL/MSS1260/180uH; Footprint: spoel (Coilcraft MSS1260); Library Reference: SPL/MSS1260/180uH; Pin Count: 2
footprint spoel (Coilcraft MSS1260)
pins: 1, 2

## SPL/MSS1260/220uH
designator L?
spoel smd Coilcraft MSS1260 serie; Part Number: SPL/MSS1260/220uH; Component Kind: Standard; Component Type: Standard; Designator: SPL/MSS1260/220uH; Footprint: spoel (Coilcraft MSS1260); Library Reference: SPL/MSS1260/220uH; Pin Count: 2
footprint spoel (Coilcraft MSS1260)
pins: 1, 2

## SPL/MSS1260/270uH
designator L?
spoel smd Coilcraft MSS1260 serie; Part Number: SPL/MSS1260/270uH; Component Kind: Standard; Component Type: Standard; Designator: SPL/MSS1260/270uH; Footprint: spoel (Coilcraft MSS1260); Library Reference: SPL/MSS1260/270uH; Pin Count: 2
footprint spoel (Coilcraft MSS1260)
pins: 1, 2

## SPL/MSS1260/330uH
designator L?
spoel smd Coilcraft MSS1260 serie; Part Number: SPL/MSS1260/330uH; Component Kind: Standard; Component Type: Standard; Designator: SPL/MSS1260/330uH; Footprint: spoel (Coilcraft MSS1260); Library Reference: SPL/MSS1260/330uH; Pin Count: 2
footprint spoel (Coilcraft MSS1260)
pins: 1, 2

## SPL/MSS1260/390uH
designator L?
spoel smd Coilcraft MSS1260 serie; Part Number: SPL/MSS1260/390uH; Component Kind: Standard; Component Type: Standard; Designator: SPL/MSS1260/390uH; Footprint: spoel (Coilcraft MSS1260); Library Reference: SPL/MSS1260/390uH; Pin Count: 2
footprint spoel (Coilcraft MSS1260)
pins: 1, 2

## SPL/MSS1260/470uH
designator L?
spoel smd Coilcraft MSS1260 serie; Part Number: SPL/MSS1260/470uH; Component Kind: Standard; Component Type: Standard; Designator: SPL/MSS1260/470uH; Footprint: spoel (Coilcraft MSS1260); Library Reference: SPL/MSS1260/470uH; Pin Count: 2
footprint spoel (Coilcraft MSS1260)
pins: 1, 2

## SPL/MSS1260/560uH
designator L?
spoel smd Coilcraft MSS1260 serie; Part Number: SPL/MSS1260/560uH; Component Kind: Standard; Component Type: Standard; Designator: SPL/MSS1260/560uH; Footprint: spoel (Coilcraft MSS1260); Library Reference: SPL/MSS1260/560uH; Pin Count: 2
footprint spoel (Coilcraft MSS1260)
pins: 1, 2

## SPL/MSS1260/680uH
designator L?
spoel smd Coilcraft MSS1260 serie; Part Number: SPL/MSS1260/680uH; Component Kind: Standard; Component Type: Standard; Designator: SPL/MSS1260/680uH; Footprint: spoel (Coilcraft MSS1260); Library Reference: SPL/MSS1260/680uH; Pin Count: 2
footprint spoel (Coilcraft MSS1260)
pins: 1, 2

## SPL/MSS1260/820uH
designator L?
spoel smd Coilcraft MSS1260 serie; Part Number: SPL/MSS1260/820uH; Component Kind: Standard; Component Type: Standard; Designator: SPL/MSS1260/820uH; Footprint: spoel (Coilcraft MSS1260); Library Reference: SPL/MSS1260/820uH; Pin Count: 2
footprint spoel (Coilcraft MSS1260)
pins: 1, 2

## SPL/MSS1260/1000uH
designator L?
spoel smd Coilcraft MSS1260 serie; Part Number: SPL/MSS1260/1000uH; Component Kind: Standard; Component Type: Standard; Designator: SPL/MSS1260/1000uH; Footprint: spoel (Coilcraft MSS1260); Library Reference: SPL/MSS1260/1000uH; Pin Count: 2
footprint spoel (Coilcraft MSS1260)
pins: 1, 2

## SPL/Ten-1/7uH
designator L?, comment 7uH
spoel smd Coilcraft MSS1260 serie
footprint spoel (Coilcraft Slot Ten)
pins: 1, 3

## SPL/WE744272251
designator L?
choke smd Wuerth 744272251
footprint SPL WE744272251 (Wuerth 744272251 choke)
pins: 1, 2, 3, 4

## SPL/WE7447709471/470uH
designator L?
spoel smd Wuerth Elektronik 7447709471, 470uH
footprint spoel 7447709471 (Wuerth Elektronik)
pins: 1, 2

## SPL/WUERTH/10mH
designator L?
Common mode Choke Wuerth 10mH 5A
footprint spoel choke (Wuerth Choke 10mH, 5A)
pins: 1, 2, 3, 4

## SPLA1.2mH
designator L?
spoel axiaal met ferrietkern 12.5x3.6mm  1.2mH; Part Number: SPLA1.2mH; Component Kind: Standard; Component Type: Standard; Designator: SPLA1.2mH; Footprint: spoel (.6/.14/.5/80/36); Library Reference: SPLA1.2mH; Pin Count: 2
footprint spoel (.6/.14/.5/80/36)
pins: 1, 2

## SPLA1.2uH
designator L?
spoel axiaal met ferrietkern 12.5x3.6mm  1.2uH; Part Number: SPLA1.2uH; Component Kind: Standard; Component Type: Standard; Designator: SPLA1.2uH; Footprint: spoel (.6/.14/.5/80/36); Library Reference: SPLA1.2uH; Pin Count: 2
footprint spoel (.6/.14/.5/80/36)
pins: 1, 2

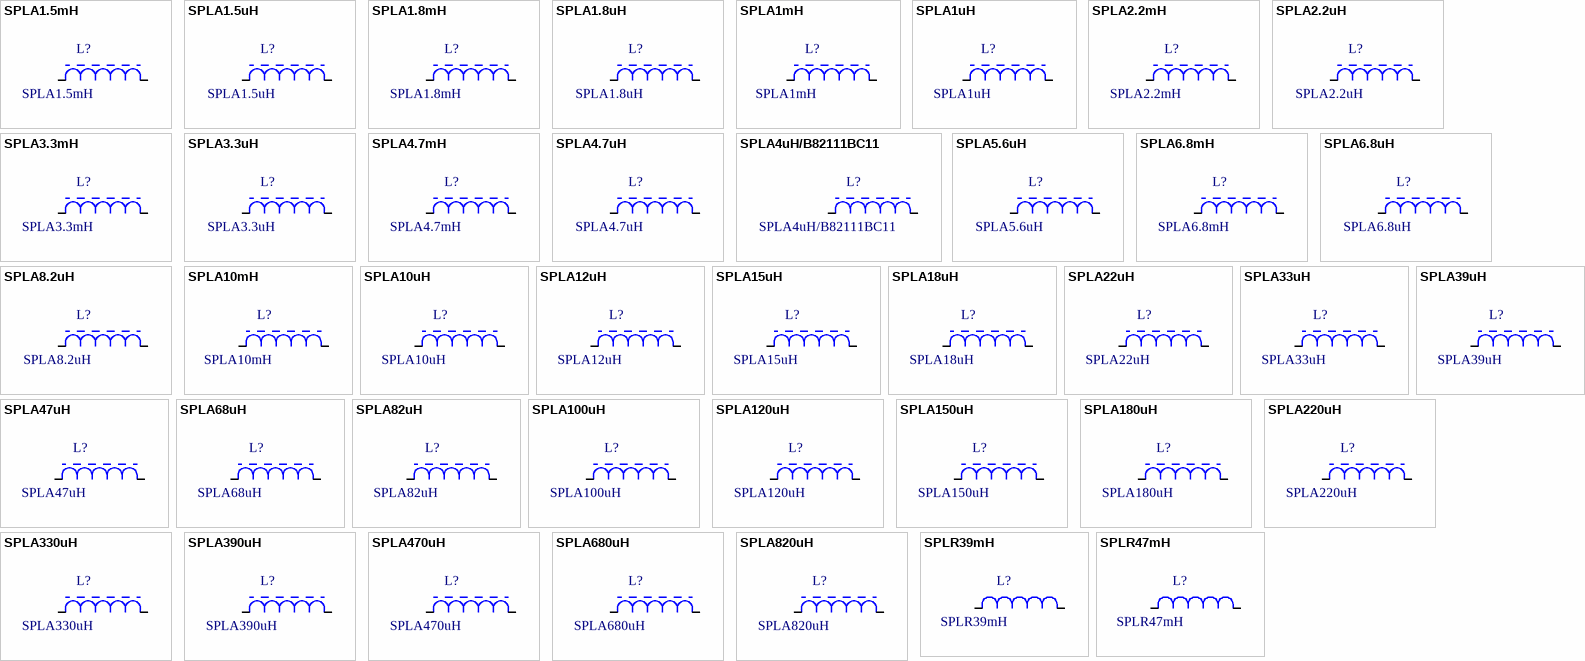
[diagram p120: symbols SPLA1.5mH to SPLR47mH]

## SPLA1.5mH
designator L?
spoel axiaal met ferrietkern 12.5x3.6mm  1.5mH; Part Number: SPLA1.5mH; Component Kind: Standard; Component Type: Standard; Designator: SPLA1.5mH; Footprint: spoel (.6/.14/.5/80/36); Library Reference: SPLA1.5mH; Pin Count: 2
footprint spoel (.6/.14/.5/80/36)
pins: 1, 2

## SPLA1.5uH
designator L?
spoel axiaal met ferrietkern 12.5x3.6mm  1.5uH; Part Number: SPLA1.5uH; Component Kind: Standard; Component Type: Standard; Designator: SPLA1.5uH; Footprint: spoel (.6/.14/.5/80/36); Library Reference: SPLA1.5uH; Pin Count: 2
footprint spoel (.6/.14/.5/80/36)
pins: 1, 2

## SPLA1.8mH
designator L?
spoel axiaal met ferrietkern 12.5x3.6mm  1.8mH; Part Number: SPLA1.8mH; Component Kind: Standard; Component Type: Standard; Designator: SPLA1.8mH; Footprint: spoel (.6/.14/.5/80/36); Library Reference: SPLA1.8mH; Pin Count: 2
footprint spoel (.6/.14/.5/80/36)
pins: 1, 2

## SPLA1.8uH
designator L?
spoel axiaal met ferrietkern 12.5x3.6mm  1.8uH; Part Number: SPLA1.8uH; Component Kind: Standard; Component Type: Standard; Designator: SPLA1.8uH; Footprint: spoel (.6/.14/.5/80/36); Library Reference: SPLA1.8uH; Pin Count: 2
footprint spoel (.6/.14/.5/80/36)
pins: 1, 2

## SPLA1mH
designator L?
spoel axiaal met ferrietkern 12.5x3.6mm  1mH; Part Number: SPLA1mH; Component Kind: Standard; Component Type: Standard; Designator: SPLA1mH; Footprint: spoel (.6/.14/.5/80/36); Library Reference: SPLA1mH; Pin Count: 2
footprint spoel (.6/.14/.5/80/36)
pins: 1, 2

## SPLA1uH
designator L?
spoel axiaal met ferrietkern 12.5x3.6mm  1uH
footprint spoel (.6/.14/.5/80/36)
pins: 1, 2

## SPLA2.2mH
designator L?
spoel axiaal met ferrietkern 12.5x3.6mm  2.2mH; Part Number: SPLA2.2mH; Component Kind: Standard; Component Type: Standard; Designator: SPLA2.2mH; Footprint: spoel (.6/.14/.5/80/36); Library Reference: SPLA2.2mH; Pin Count: 2
footprint spoel (.6/.14/.5/80/36)
pins: 1, 2

## SPLA2.2uH
designator L?
spoel axiaal met ferrietkern 12.5x3.6mm  2.2uH; Part Number: SPLA2.2uH; Component Kind: Standard; Component Type: Standard; Designator: SPLA2.2uH; Footprint: spoel (.6/.14/.5/80/36); Library Reference: SPLA2.2uH; Pin Count: 2
footprint spoel (.6/.14/.5/80/36)
pins: 1, 2

## SPLA3.3mH
designator L?
spoel axiaal met ferrietkern 12.5x3.6mm  3.3mH; Part Number: SPLA3.3mH; Component Kind: Standard; Component Type: Standard; Designator: SPLA3.3mH; Footprint: spoel (.6/.14/.5/80/36); Library Reference: SPLA3.3mH; Pin Count: 2
footprint spoel (.6/.14/.5/80/36)
pins: 1, 2

## SPLA3.3uH
designator L?
spoel axiaal met ferrietkern 12.5x3.6mm  3.3uH; Part Number: SPLA3.3uH; Component Kind: Standard; Component Type: Standard; Designator: SPLA3.3uH; Footprint: spoel (.6/.14/.5/80/36); Library Reference: SPLA3.3uH; Pin Count: 2
footprint spoel (.6/.14/.5/80/36)
pins: 1, 2

## SPLA4.7mH
designator L?
spoel axiaal met ferrietkern 12.5x3.6mm  4.7mH; Part Number: SPLA4.7mH; Component Kind: Standard; Component Type: Standard; Designator: SPLA4.7mH; Footprint: spoel (.6/.14/.5/80/36); Library Reference: SPLA4.7mH; Pin Count: 2
footprint spoel (.6/.14/.5/80/36)
pins: 1, 2

## SPLA4.7uH
designator L?
spoel axiaal met ferrietkern 12.5x3.6mm  4.7uH; Part Number: SPLA4.7uH; Component Kind: Standard; Component Type: Standard; Designator: SPLA4.7uH; Footprint: spoel (.6/.14/.5/80/36); Library Reference: SPLA4.7uH; Pin Count: 2
footprint spoel (.6/.14/.5/80/36)
pins: 1, 2

## SPLA4uH/B82111BC11
designator L?
spoel axiaal met ferrietkern, Epcos B82111BC11 4µH
footprint spoel (.95/.3/1.2/100/36)
pins: 1, 2

## SPLA5.6uH
designator L?
spoel axiaal met ferrietkern 12.5x3.6mm  5.6uH; Part Number: SPLA5.6uH; Component Kind: Standard; Component Type: Standard; Designator: SPLA5.6uH; Footprint: spoel (.6/.14/.5/80/36); Library Reference: SPLA5.6uH; Pin Count: 2
footprint spoel (.6/.14/.5/80/36)
pins: 1, 2

## SPLA6.8mH
designator L?
spoel axiaal met ferrietkern 12.5x3.6mm  6.8mH; Part Number: SPLA6.8mH; Component Kind: Standard; Component Type: Standard; Designator: SPLA6.8mH; Footprint: spoel (.6/.14/.5/80/36); Library Reference: SPLA6.8mH; Pin Count: 2
footprint spoel (.6/.14/.5/80/36)
pins: 1, 2

## SPLA6.8uH
designator L?
spoel axiaal met ferrietkern 12.5x3.6mm  6.8uH; Part Number: SPLA6.8uH; Component Kind: Standard; Component Type: Standard; Designator: SPLA6.8uH; Footprint: spoel (.6/.14/.5/80/36); Library Reference: SPLA6.8uH; Pin Count: 2
footprint spoel (.6/.14/.5/80/36)
pins: 1, 2

## SPLA8.2uH
designator L?
spoel axiaal met ferrietkern 12.5x3.6mm  8.2uH; Part Number: SPLA8.2uH; Component Kind: Standard; Component Type: Standard; Designator: SPLA8.2uH; Footprint: spoel (.6/.14/.5/80/36); Library Reference: SPLA8.2uH; Pin Count: 2
footprint spoel (.6/.14/.5/80/36)
pins: 1, 2

## SPLA10mH
designator L?
spoel axiaal met ferrietkern 12.5x3.6mm  10mH; Part Number: SPLA10mH; Component Kind: Standard; Component Type: Standard; Designator: SPLA10mH; Footprint: spoel (.6/.14/.5/80/36); Library Reference: SPLA10mH; Pin Count: 2
footprint spoel (.6/.14/.5/80/36)
pins: 1, 2

## SPLA10uH
designator L?
spoel axiaal met ferrietkern 12.5x3.6mm  10uH; Part Number: SPLA10uH; Component Kind: Standard; Component Type: Standard; Designator: SPLA10uH; Footprint: spoel (.6/.14/.5/80/36); Library Reference: SPLA10uH; Pin Count: 2
footprint spoel (.6/.14/.5/80/36)
pins: 1, 2

## SPLA12uH
designator L?
spoel axiaal met ferrietkern 12.5x3.6mm  12uH; Part Number: SPLA12uH; Component Kind: Standard; Component Type: Standard; Designator: SPLA12uH; Footprint: spoel (.6/.14/.5/80/36); Library Reference: SPLA12uH; Pin Count: 2
footprint spoel (.6/.14/.5/80/36)
pins: 1, 2

## SPLA15uH
designator L?
spoel axiaal met ferrietkern 12.5x3.6mm  15uH; Part Number: SPLA15uH; Component Kind: Standard; Component Type: Standard; Designator: SPLA15uH; Footprint: spoel (.6/.14/.5/80/36); Library Reference: SPLA15uH; Pin Count: 2
footprint spoel (.6/.14/.5/80/36)
pins: 1, 2

## SPLA18uH
designator L?
spoel axiaal met ferrietkern 12.5x3.6mm  18uH; Part Number: SPLA18uH; Component Kind: Standard; Component Type: Standard; Designator: SPLA18uH; Footprint: spoel (.6/.14/.5/80/36); Library Reference: SPLA18uH; Pin Count: 2
footprint spoel (.6/.14/.5/80/36)
pins: 1, 2

## SPLA22uH
designator L?
spoel axiaal met ferrietkern 12.5x3.6mm  22uH; Part Number: SPLA22uH; Component Kind: Standard; Component Type: Standard; Designator: SPLA22uH; Footprint: spoel (.6/.14/.5/80/36); Library Reference: SPLA22uH; Pin Count: 2
footprint spoel (.6/.14/.5/80/36)
pins: 1, 2

## SPLA33uH
designator L?
spoel axiaal met ferrietkern 12.5x3.6mm  33uH; Part Number: SPLA33uH; Component Kind: Standard; Component Type: Standard; Designator: SPLA33uH; Footprint: spoel (.6/.14/.5/80/36); Library Reference: SPLA33uH; Pin Count: 2
footprint spoel (.6/.14/.5/80/36)
pins: 1, 2

## SPLA39uH
designator L?
spoel axiaal met ferrietkern 12.5x3.6mm  39uH; Part Number: SPLA39uH; Component Kind: Standard; Component Type: Standard; Designator: SPLA39uH; Footprint: spoel (.6/.14/.5/80/36); Library Reference: SPLA39uH; Pin Count: 2
footprint spoel (.6/.14/.5/80/36)
pins: 1, 2

## SPLA47uH
designator L?
spoel axiaal met ferrietkern 12.5x3.6mm  47uH; Part Number: SPLA47uH; Component Kind: Standard; Component Type: Standard; Designator: SPLA47uH; Footprint: spoel (.6/.14/.5/80/36); Library Reference: SPLA47uH; Pin Count: 2
footprint spoel (.6/.14/.5/80/36)
pins: 1, 2

## SPLA68uH
designator L?
spoel axiaal met ferrietkern 12.5x3.6mm  68uH; Part Number: SPLA68uH; Component Kind: Standard; Component Type: Standard; Designator: SPLA68uH; Footprint: spoel (.6/.14/.5/80/36); Library Reference: SPLA68uH; Pin Count: 2
footprint spoel (.6/.14/.5/80/36)
pins: 1, 2

## SPLA82uH
designator L?
spoel axiaal met ferrietkern 12.5x3.6mm  82uH; Part Number: SPLA82uH; Component Kind: Standard; Component Type: Standard; Designator: SPLA82uH; Footprint: spoel (.6/.14/.5/80/36); Library Reference: SPLA82uH; Pin Count: 2
footprint spoel (.6/.14/.5/80/36)
pins: 1, 2

## SPLA100uH
designator L?
spoel axiaal met ferrietkern 12.5x3.6mm  100uH; Part Number: SPLA100uH; Component Kind: Standard; Component Type: Standard; Designator: SPLA100uH; Footprint: spoel (.6/.14/.5/80/36); Library Reference: SPLA100uH; Pin Count: 2
footprint spoel (.6/.14/.5/80/36)
pins: 1, 2

## SPLA120uH
designator L?
spoel axiaal met ferrietkern 12.5x3.6mm  120uH; Part Number: SPLA120uH; Component Kind: Standard; Component Type: Standard; Designator: SPLA120uH; Footprint: spoel (.6/.14/.5/80/36); Library Reference: SPLA120uH; Pin Count: 2
footprint spoel (.6/.14/.5/80/36)
pins: 1, 2

## SPLA150uH
designator L?
spoel axiaal met ferrietkern 12.5x3.6mm  150uH; Part Number: SPLA150uH; Component Kind: Standard; Component Type: Standard; Designator: SPLA150uH; Footprint: spoel (.6/.14/.5/80/36); Library Reference: SPLA150uH; Pin Count: 2
footprint spoel (.6/.14/.5/80/36)
pins: 1, 2

## SPLA180uH
designator L?
spoel axiaal met ferrietkern 12.5x3.6mm  180uH; Part Number: SPLA180uH; Component Kind: Standard; Component Type: Standard; Designator: SPLA180uH; Footprint: spoel (.6/.14/.5/80/36); Library Reference: SPLA180uH; Pin Count: 2
footprint spoel (.6/.14/.5/80/36)
pins: 1, 2

## SPLA220uH
designator L?
spoel axiaal met ferrietkern 12.5x3.6mm  220uH; Part Number: SPLA220uH; Component Kind: Standard; Component Type: Standard; Designator: SPLA220uH; Footprint: spoel (.6/.14/.5/80/36); Library Reference: SPLA220uH; Pin Count: 2
footprint spoel (.6/.14/.5/80/36)
pins: 1, 2

## SPLA330uH
designator L?
spoel axiaal met ferrietkern 12.5x3.6mm  330uH; Part Number: SPLA330uH; Component Kind: Standard; Component Type: Standard; Designator: SPLA330uH; Footprint: spoel (.6/.14/.5/80/36); Library Reference: SPLA330uH; Pin Count: 2
footprint spoel (.6/.14/.5/80/36)
pins: 1, 2

## SPLA390uH
designator L?
spoel axiaal met ferrietkern 12.5x3.6mm  390uH; Part Number: SPLA390uH; Component Kind: Standard; Component Type: Standard; Designator: SPLA390uH; Footprint: spoel (.6/.14/.5/80/36); Library Reference: SPLA390uH; Pin Count: 2
footprint spoel (.6/.14/.5/80/36)
pins: 1, 2

## SPLA470uH
designator L?
spoel axiaal met ferrietkern 12.5x3.6mm  470uH; Part Number: SPLA470uH; Component Kind: Standard; Component Type: Standard; Designator: SPLA470uH; Footprint: spoel (.6/.14/.5/80/36); Library Reference: SPLA470uH; Pin Count: 2
footprint spoel (.6/.14/.5/80/36)
pins: 1, 2

## SPLA680uH
designator L?
spoel axiaal met ferrietkern 12.5x3.6mm  680uH; Part Number: SPLA680uH; Component Kind: Standard; Component Type: Standard; Designator: SPLA680uH; Footprint: spoel (.6/.14/.5/80/36); Library Reference: SPLA680uH; Pin Count: 2
footprint spoel (.6/.14/.5/80/36)
pins: 1, 2

## SPLA820uH
designator L?
spoel axiaal met ferrietkern 12.5x3.6mm  820uH; Part Number: SPLA820uH; Component Kind: Standard; Component Type: Standard; Designator: SPLA820uH; Footprint: spoel (.6/.14/.5/80/36); Library Reference: SPLA820uH; Pin Count: 2
footprint spoel (.6/.14/.5/80/36)
pins: 1, 2

## SPLR39mH
designator L?
spoel radiaal magn. afgeschermd D10.2mm Toko10RB  39mH
footprint spoel (D.4/.2/80/36)
pins: 1, 2

## SPLR47mH
designator L?
spoel radiaal magn. afgeschermd D10.2mm Toko10RB  47mH; Part Number: SPLR47mH; Component Kind: Standard; Component Type: Standard; Designator: SPLR47mH; Footprint: spoel (D.4/.2/80/36); Library Reference: SPLR47mH; Pin Count: 2
footprint spoel (D.4/.2/80/36)
pins: 1, 2

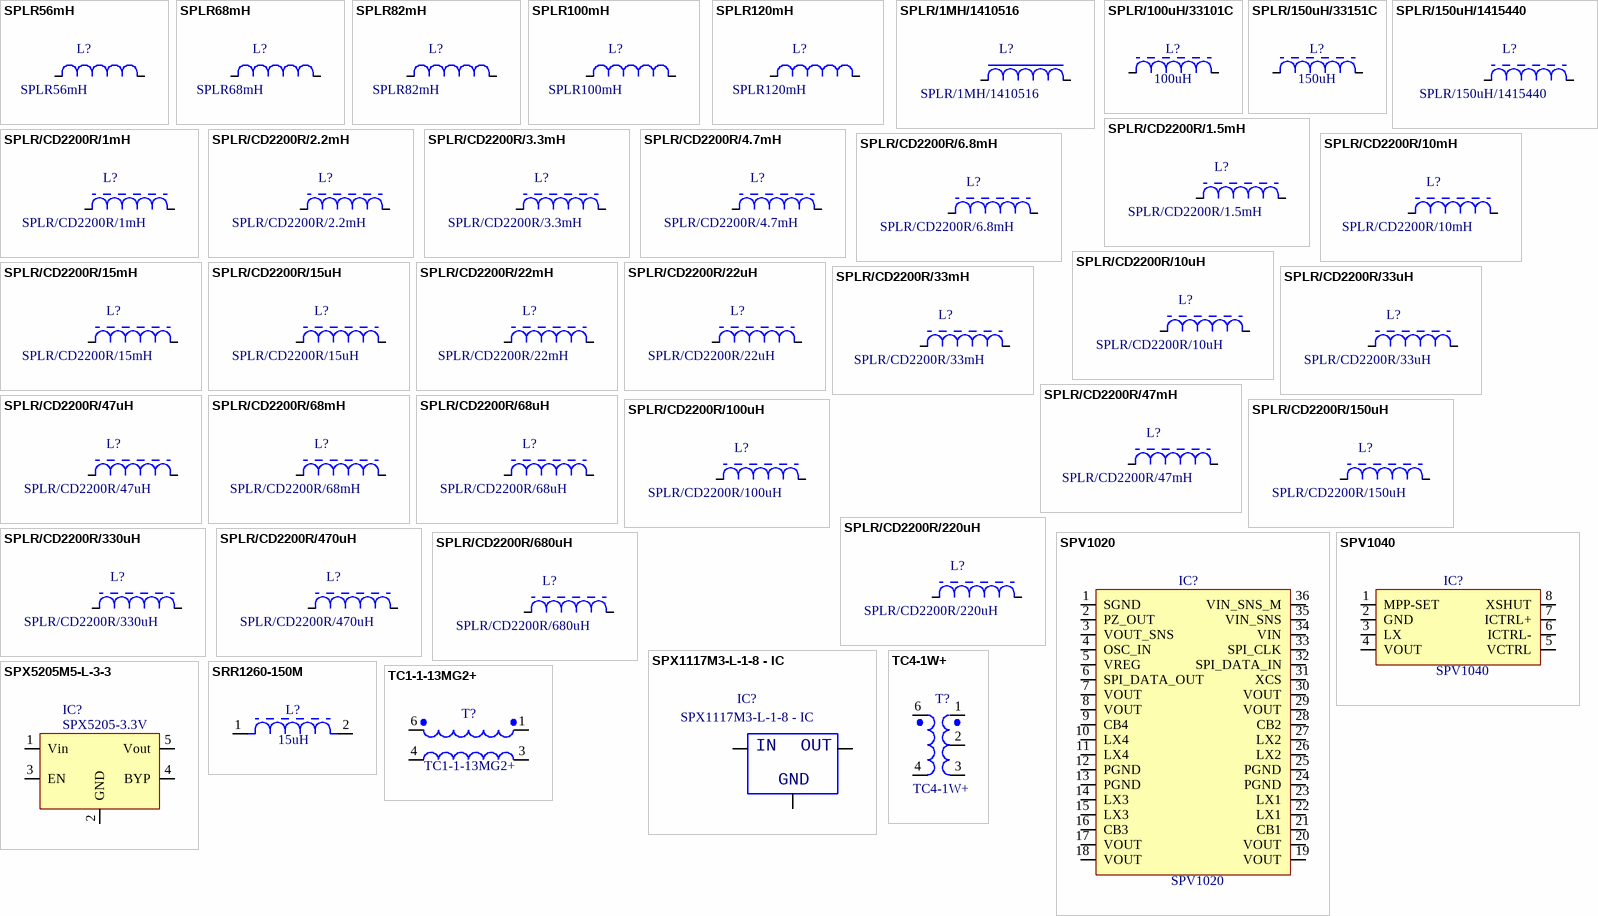
[diagram p121: symbols SPLR56mH to TC4-1W+]

## SPLR56mH
designator L?
spoel radiaal magn. afgeschermd D10.2mm Toko10RB  56mH; Part Number: SPLR56mH; Component Kind: Standard; Component Type: Standard; Designator: SPLR56mH; Footprint: spoel (D.4/.2/80/36); Library Reference: SPLR56mH; Pin Count: 2
footprint spoel (D.4/.2/80/36)
pins: 1, 2

## SPLR68mH
designator L?
spoel radiaal magn. afgeschermd D10.2mm Toko10RB  68mH; Part Number: SPLR68mH; Component Kind: Standard; Component Type: Standard; Designator: SPLR68mH; Footprint: spoel (D.4/.2/80/36); Library Reference: SPLR68mH; Pin Count: 2
footprint spoel (D.4/.2/80/36)
pins: 1, 2